# EAGLE library part DIGILENT_PMOD (library Boards)
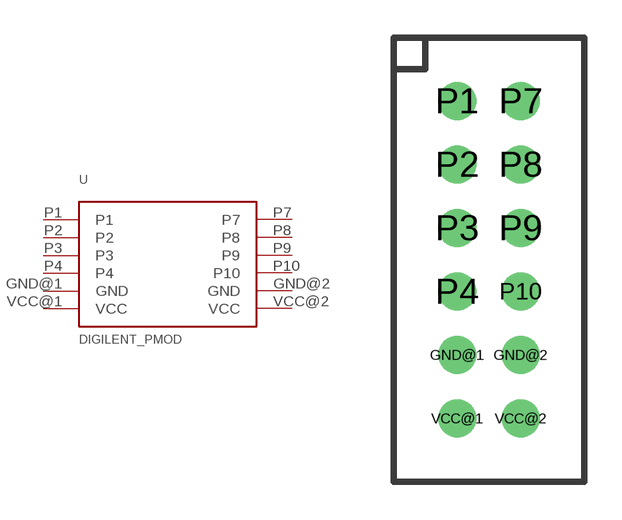
[diagram p4: symbol with the pads of DIGILENT_PMOD; footprint DIGILENT_PMOD]

Designator prefix -

## DIGILENT_PMOD  [DIGILENT_PMOD]
GND@1  GND  pwr
GND@2  GND  pwr
P1  P1
P2  P2
P3  P3
P4  P4
P7  P7
P8  P8
P9  P9
P10  P10
VCC@1  VCC  pwr
VCC@2  VCC  pwr

## Footprint DIGILENT_PMOD (pad centres in mm)
drill 1.016: GND@1 -1.27,-3.81; GND@2 1.27,-3.81; P1 -1.27,6.35; P2 -1.27,3.81; P3 -1.27,1.27; P4 -1.27,-1.27; P7 1.27,6.35; P8 1.27,3.81; P9 1.27,1.27; P10 1.27,-1.27; VCC@1 -1.27,-6.35; VCC@2 1.27,-6.35